# EAGLE library part CON_DF17-20 (library wheat)
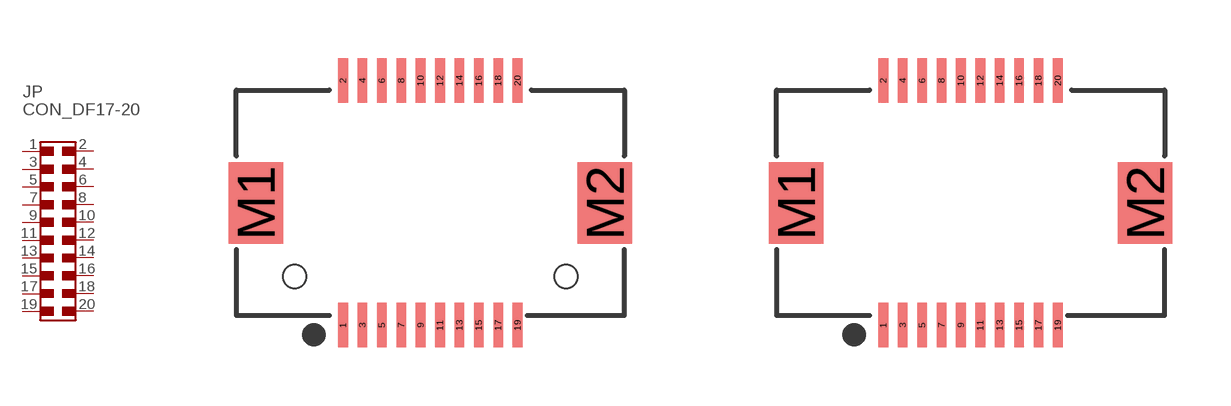
[diagram p184: symbol with the pads of CON_DF17_20P; footprints CON_DF17_20P, CON_DF17_NOHOLES]

Designator prefix JP

## CON_DF17-20  [CON_DF17_20P]
1  1  pas
2  2  pas
3  3  pas
4  4  pas
5  5  pas
6  6  pas
7  7  pas
8  8  pas
9  9  pas
10  10  pas
11  11  pas
12  12  pas
13  13  pas
14  14  pas
15  15  pas
16  16  pas
17  17  pas
18  18  pas
19  19  pas
20  20  pas

## CON_DF17-20_NH  [CON_DF17_NOHOLES]
Pads as for CON_DF17_20P

## CON_DF17-20_JMD  [COM_JMD_20_P]
Pads as for CON_DF17_20P

## CON_DF17-20_JRA  [CON_JMD_20_RA]
Pads as for CON_DF17_20P

## Footprint CON_DF17_20P (pad centres in mm)
smd 0.25 x 1.15: 1 -2.25,-3.15; 2 -2.25,3.15; 3 -1.75,-3.15; 4 -1.75,3.15; 5 -1.25,-3.15; 6 -1.25,3.15; 7 -0.75,-3.15; 8 -0.75,3.15; 9 -0.25,-3.15; 10 -0.25,3.15; 11 0.25,-3.15; 12 0.25,3.15; 13 0.75,-3.15; 14 0.75,3.15; 15 1.25,-3.15; 16 1.25,3.15; 17 1.75,-3.15; 18 1.75,3.15; 19 2.25,-3.15; 20 2.25,3.15
smd 1.4 x 2.1: M1 -4.5,0; M2 4.5,0
hole 0.6 at -3.5,-1.9
hole 0.6 at 3.5,-1.9

## Footprint CON_DF17_NOHOLES (pad centres in mm)
smd 0.25 x 1.15: 1 -2.25,-3.15; 2 -2.25,3.15; 3 -1.75,-3.15; 4 -1.75,3.15; 5 -1.25,-3.15; 6 -1.25,3.15; 7 -0.75,-3.15; 8 -0.75,3.15; 9 -0.25,-3.15; 10 -0.25,3.15; 11 0.25,-3.15; 12 0.25,3.15; 13 0.75,-3.15; 14 0.75,3.15; 15 1.25,-3.15; 16 1.25,3.15; 17 1.75,-3.15; 18 1.75,3.15; 19 2.25,-3.15; 20 2.25,3.15
smd 1.4 x 2.1: M1 -4.5,0; M2 4.5,0

## Footprint COM_JMD_20_P (pad centres in mm)
smd 0.3 x 1.45: 1 -2.25,-2.175; 2 -2.25,2.175; 3 -1.75,-2.175; 4 -1.75,2.175; 5 -1.25,-2.175; 6 -1.25,2.175; 7 -0.75,-2.175; 8 -0.75,2.175; 9 -0.25,-2.175; 10 -0.25,2.175; 11 0.25,-2.175; 12 0.25,2.175; 13 0.75,-2.175; 14 0.75,2.175; 15 1.25,-2.175; 16 1.25,2.175; 17 1.75,-2.175; 18 1.75,2.175; 19 2.25,-2.175; 20 2.25,2.175
smd 0.85 x 1.4: M1 -4.225,0; M2 4.225,0

## Footprint CON_JMD_20_RA (pad centres in mm)
smd 0.3 x 1.35: 1 2.25,0.05; 2 2.25,4.35; 3 1.75,0.05; 4 1.75,4.35; 5 1.25,0.05; 6 1.25,4.35; 7 0.75,0.05; 8 0.75,4.35; 9 0.25,0.05; 10 0.25,4.35; 11 -0.25,0.05; 12 -0.25,4.35; 13 -0.75,0.05; 14 -0.75,4.35; 15 -1.25,0.05; 16 -1.25,4.35; 17 -1.75,0.05; 18 -1.75,4.35; 19 -2.25,0.05; 20 -2.25,4.35
smd 0.85 x 1.4: M1 -4.225,2.425; M2 4.225,2.425